# EAGLE library part LM27965SQ (library MOTO_LIB)
LED driver LM27965
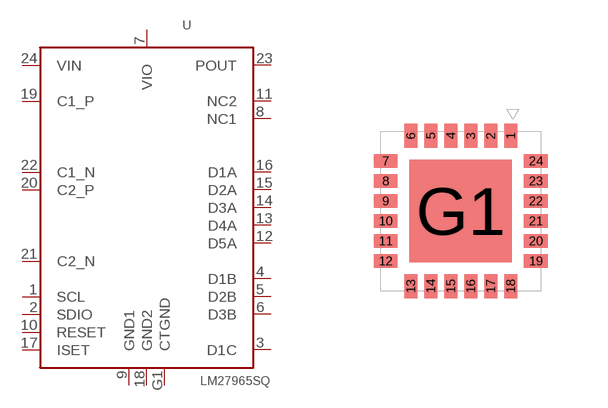
[diagram p19: symbol with the pads of LLP4X4PS0_5P25; footprint LLP4X4PS0_5P25]

Designator prefix U

## LM27965SQ (MPN: LM27965SQ; SUPPLIER: TI)  [LLP4X4PS0_5P25]
1  SCL
2  SDIO
3  D1C
4  D1B
5  D2B
6  D3B
7  VIO
8  NC1
9  GND1
10  RESET
11  NC2
12  D5A
13  D4A
14  D3A
15  D2A
16  D1A
17  ISET
18  GND2
19  C1_P
20  C2_P
21  C2_N
22  C1_N
23  POUT
24  VIN
G1  CTGND

## Footprint LLP4X4PS0_5P25 (pad centres in mm)
smd 0.33 x 0.6: 1 1.25,1.88; 2 0.75,1.88; 3 0.25,1.88; 4 -0.25,1.88; 5 -0.75,1.88; 6 -1.25,1.88; 13 -1.25,-1.88; 14 -0.75,-1.88; 15 -0.25,-1.88; 16 0.25,-1.88; 17 0.75,-1.88; 18 1.25,-1.88
smd 0.6 x 0.33: 7 -1.88,1.25; 8 -1.88,0.75; 9 -1.88,0.25; 10 -1.88,-0.25; 11 -1.88,-0.75; 12 -1.88,-1.25; 19 1.88,-1.25; 20 1.88,-0.75; 21 1.88,-0.25; 22 1.88,0.25; 23 1.88,0.75; 24 1.88,1.25
smd 2.56 x 2.56: G1 0,0